# Altium footprint library Capacitor.PcbLib: 7 footprints
Each footprint in its own frame and in the unit in brackets; x right, y up, seen from the top. Pads: shape width x height; smd on the part's side, far side on the other; paste and mask are expansions set on the pad; w line width, h text height; cw(c..) or ccw(c..) is an arc to the next point about the centre after c.
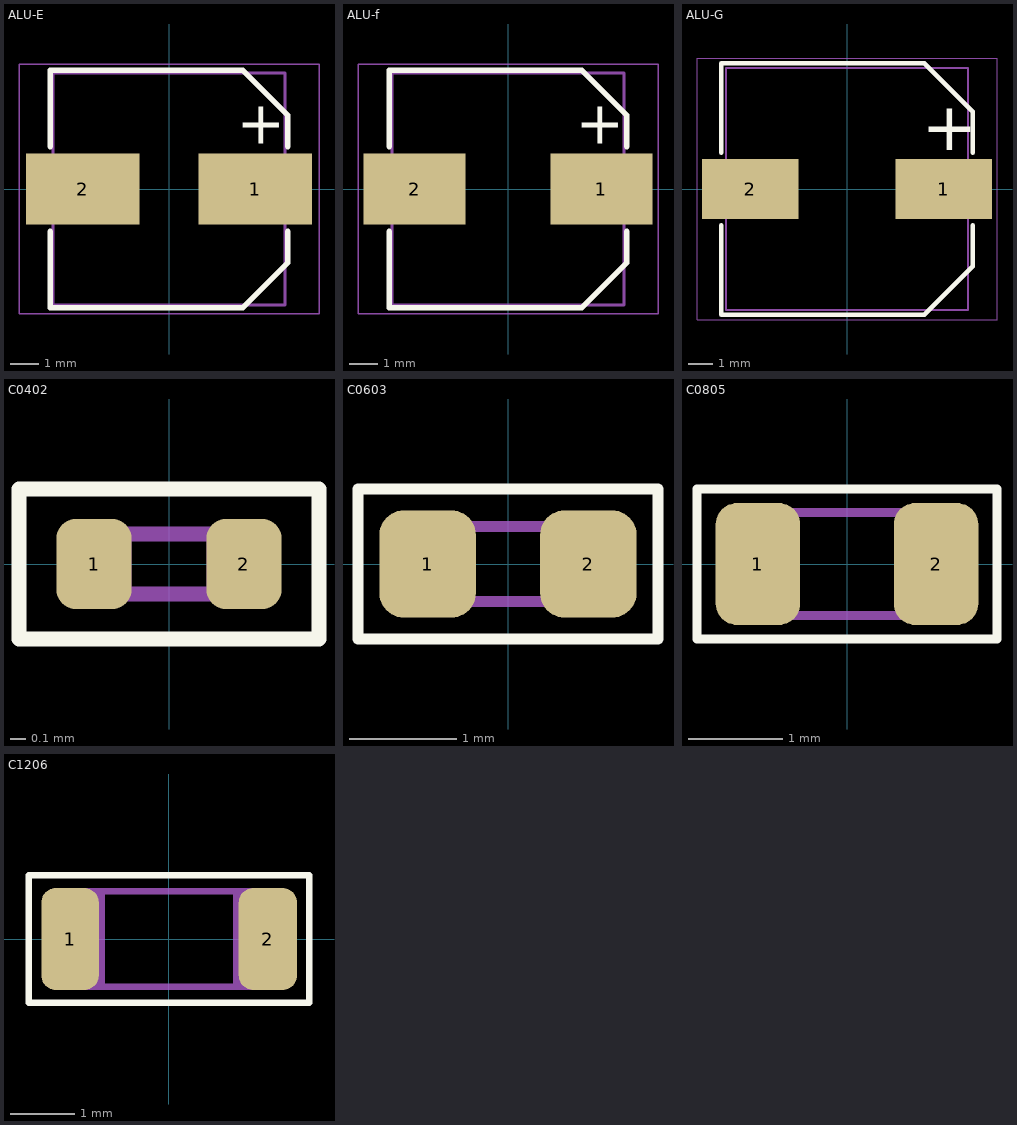
[diagram p0: the footprints below, top view; thin cyan lines are the x and y axes]

## ALU-E [mm]
pads (2):
  rect 4x2.5 smd: 1(3.05,0) 2(-3.05,0)
Top Overlay:
  lines w0.2: -4.2,-1.5 -4.2,-4.2 2.6,-4.2 4.2,-2.6 4.2,-1.5 ; -4.2,1.5 -4.2,4.2 2.6,4.2 4.2,2.6 4.2,1.5
  text "+" at 2.4,1.6 h1.5
Mechanical 13:
  lines w0.1: -4.1,-4.1 4.1,-4.1 4.1,4.1 -4.1,4.1 -4.1,-4.1
Mechanical 15:
  lines w0.05: -5.3,-4.4 5.3,-4.4 5.3,4.4 -5.3,4.4 -5.3,-4.4
  text ".Designator" at -4.3,-0.5 h2
3D body "User_Library-ALU-E[1].STEP": height 6.2, standoff 0, extent -4.5,-4.15 4.5,4.15

## ALU-f [mm]
pads (2):
  rect 3.6x2.5 smd: 1(3.3,0) 2(-3.3,0)
Top Overlay:
  lines w0.2: -4.2,-1.5 -4.2,-4.2 2.6,-4.2 4.2,-2.6 4.2,-1.5 ; -4.2,1.5 -4.2,4.2 2.6,4.2 4.2,2.6 4.2,1.5
  text "+" at 2.4,1.6 h1.5
Mechanical 13:
  lines w0.1: -4.1,-4.1 4.1,-4.1 4.1,4.1 -4.1,4.1 -4.1,-4.1
Mechanical 15:
  lines w0.05: -5.3,-4.4 5.3,-4.4 5.3,4.4 -5.3,4.4 -5.3,-4.4
  text ".Designator" at -4.3,-0.5 h2
3D body "User Library-ALU-F.STEP": height 10.2, standoff 0, extent -4.95,-4.15 4.95,4.15

## ALU-G [mm]
pads (2):
  rect 4x2.5 smd: 1(4,0) 2(-4,0)
Top Overlay:
  lines w0.2: -5.2,-1.5 -5.2,-5.2 3.2,-5.2 5.2,-3.2 5.2,-1.5 ; -5.2,1.5 -5.2,5.2 3.2,5.2 5.2,3.2 5.2,1.5
  text "+" at 3.1,1.6 h2
Mechanical 13:
  lines w0.1: -5,-5 5,-5 5,5 -5,5 -5,-5
Mechanical 15:
  lines w0.05: -6.2,-5.4 6.2,-5.4 6.2,5.4 -6.2,5.4 -6.2,-5.4
  text ".Designator" at -4.3,-0.5 h2
3D body "User Library-ALU-G.STEP": height 10.2, standoff 0, extent -5.8,-5.15 5.8,5.15

## C0402 [mm]
pads (2):
  rrect50% 0.5x0.6 smd: 1(-0.5,0) 2(0.5,0)
Top Overlay:
  lines w0.1: -1,-0.5 1,-0.5 1,0.5 -1,0.5 -1,-0.5
Mechanical 13:
  rectangle: -0.25,-0.25 0.25,-0.15
  rectangle: -0.5,-0.25 -0.25,0.25
  rectangle: -0.25,0.15 0.25,0.25
  region: 0.5,0.25 0.25,0.25 0.25,-0.25 0.5,-0.25
Mechanical 15:
  lines w0.05: -1,-0.5 1,-0.5 1,0.5 -1,0.5 -1,-0.5
  text ".Designator" at -0.8,-0.1 h0.5
3D body "User Library-User Library-cap0402_cap0402_body-1.step": height 0.49, standoff -0.01, extent -0.5,-0.25 0.5,0.25

## C0603 [mm]
pads (2):
  rrect50% 0.9x1 smd: 1(-0.75,0) 2(0.75,0)
Top Overlay:
  lines w0.1: -1.4,-0.7 1.4,-0.7 1.4,0.7 -1.4,0.7 -1.4,-0.7
Mechanical 13:
  rectangle: -0.8,-0.4 -0.5,0.4
  rectangle: 0.5,-0.4 0.8,0.4
  rectangle: -0.5,-0.4 0.5,-0.3
  rectangle: -0.5,0.3 0.5,0.4
Mechanical 15:
  lines w0.05: -1.4,-0.7 -1.4,0.7 1.4,0.7 1.4,-0.7 -1.4,-0.7
  text ".Designator" at -1.1,-0.1 h0.5
3D body "cap_0603.STEP": height 0.87, standoff -0.01, extent -0.8,-0.405 0.8,0.405

## C0805 [mm]
pads (2):
  rrect50% 0.9x1.3 smd: 1(-0.95,0) 2(0.95,0)
Top Overlay:
  lines w0.1: -1.6,-0.8 -1.6,0.8 1.6,0.8 1.6,-0.8 -1.6,-0.8
Mechanical 13:
  rectangle: -0.6,0.5 0.6,0.6
  rectangle: -0.6,-0.6 0.6,-0.5
  rectangle: 0.6,-0.6 1,0.6
  rectangle: -1,-0.6 -0.6,0.6
Mechanical 15:
  lines w0.05: -1.6,-0.8 1.6,-0.8 1.6,0.8 -1.6,0.8 -1.6,-0.8
  text ".Designator" at -1.4,-0.2 h0.75
3D body "cap_0805.STEP": height 0.78, standoff 0, extent -1,-0.625 1,0.625

## C1206 [mm]
pads (2):
  rrect50% 0.9x1.6 smd: 1(-1.55,0)
  rrect50% 0.914x1.6 smd: 2(1.55,0)
Top Overlay:
  lines w0.1: -2.2,-1 -2.2,1 2.2,1 2.2,-1 -2.2,-1
Mechanical 13:
  region: 1,-0.7 -1,-0.7 -1,-0.8 1,-0.8
  rectangle: -1,0.7 1,0.8
  rectangle: -1.6,-0.8 -1,0.8
  region: 1.6,0.8 1,0.8 1,-0.8 1.6,-0.8
Mechanical 15:
  lines w0.05: -2.2,-1 -2.2,1 2.2,1 2.2,-1 -2.2,-1
  text ".Designator" at -1.9,-0.2 h1
3D body "User Library-1206 SMD Capacitor.step": height 1, standoff 0, extent -1.6,-0.8 1.6,0.8